# Altium footprint library Relay.PcbLib: 6 footprints
Each footprint in its own frame and in the unit in brackets; x right, y up, seen from the top. Pads: shape width x height; smd on the part's side, far side on the other; paste and mask are expansions set on the pad; w line width, h text height; cw(c..) or ccw(c..) is an arc to the next point about the centre after c.
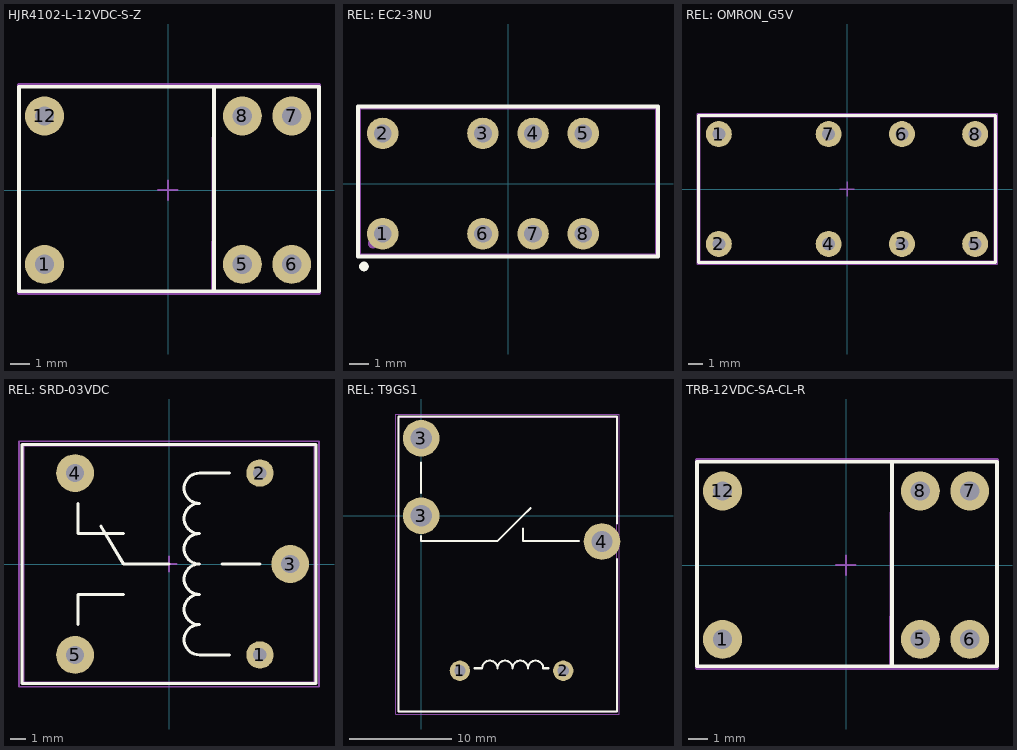
[diagram p0: the footprints below, top view; thin cyan lines are the x and y axes]

## HJR4102-L-12VDC-S-Z [mm] "Subminiature relay"
height 11.7
pads (6):
  round 2 hole 1: 1(-6.35,-3.81) 5(3.81,-3.81) 6(6.35,-3.81) 7(6.35,3.81) 8(3.81,3.81) 12(-6.35,3.81)
Top Overlay:
  lines w0.2: 2.35,-5.19 2.35,5.31 ; -7.65,-5.19 7.75,-5.19 7.75,5.31 -7.65,5.31 -7.65,-5.19
Top Assembly:
  lines w0.2: 2.3,-5.275 2.35,5.4 ; -7.66,-5.29 -7.66,5.41 7.75,5.41 7.75,-5.29 -7.66,-5.29
  text "'.Designator'" at -0.5,-0.312 h1
Area:
  lines w0.1: -0.51,0 0.49,0 ; -0.01,-0.5 -0.01,0.5 ; -7.65,-5.29 7.75,-5.29 7.75,5.41 -7.65,5.41 -7.65,-5.29
3D body "HJR4102.step": height 11.85, standoff -3.45, extent -7.7,-5.29 7.8,5.41

## REL: EC2-3NU [mm]
pads (10):
  round 1.6 hole 0.9: 1(-6.35,-2.54) 2(-6.35,2.54) 3(-1.27,2.54) 4(1.27,2.54) 5(3.81,2.54) 6(-1.27,-2.54) 7(1.27,-2.54) 8(3.81,-2.54)
  round 0.5 on Top Overlay: ""(-7.3,-4.2)
  round 0.5 on Mech1: ""(-6.85,-3.04)
Top Overlay:
  lines w0.2: -7.6,-3.7 7.6,-3.7 7.6,3.9 -7.6,3.9 -7.6,-3.7
Top Assembly:
  lines w0.1: -7.5,-3.59 7.5,-3.59 7.5,3.81 -7.5,3.81 -7.5,-3.59
Area:
  lines w0.1: -7.55,-3.64 7.55,-3.64 7.55,3.86 -7.55,3.86 -7.55,-3.64
3D body "User Library-EC2-12.STEP": height 8.2, standoff -3.5, extent -7.5,-3.59 7.5,3.81

## REL: OMRON_G5V [mm] "Omron G5V relay"
height 10
pads (8):
  round 1.8 hole 0.9: 1(-8.89,3.81) 2(-8.89,-3.81) 3(3.81,-3.81) 4(-1.27,-3.81) 5(8.89,-3.81) 6(3.81,3.81) 7(-1.27,3.81) 8(8.89,3.81)
Top Overlay:
  lines w0.2: -10.3,-5.1 -10.3,5.1 10.3,5.1 10.3,-5.1 -10.3,-5.1
Top Assembly:
  lines w0.1: -10.2,-5 10.2,-5 10.2,5 -10.2,5 -10.2,-5
Area:
  lines w0.1: -0.5,0 0.5,0 ; 0,-0.5 0,0.5 ; -10.4,-5.207 -10.4,5.207 10.4,5.207 10.4,-5.207 -10.4,-5.207
3D body "OMRON G5V-2.step": height 10.92, standoff -4, extent -10.2,-5 10.2,5

## REL: SRD-03VDC [mm]
pads (5):
  round 1.8 hole 0.9: 1(6,-6) 2(6,6)
  round 2.5 hole 1.2: 3(8,0) 4(-6.2,6) 5(-6.2,-6)
Top Overlay:
  lines w0.2: -6,-4 -6,-2 -3,-2 ; -6,4 -6,2 -3,2 ; -4.5,2.5 -3,0 0,0 ; 3.5,0 6,0 ; 4,-6 2,-6 cw(c2,-5) 2,-4 cw(c2,-3) 2,-2 cw(c2,-1) 2,0 cw(c2,1) 2,2 cw(c2,3) 2,4 cw(c2,5) 2,6 4,6 ; -9.7,-7.9 9.7,-7.9 9.7,7.9 -9.7,7.9 -9.7,-7.9
Top Assembly:
  lines w0.1: -6,-4 -6,-2 -3,-2 ; -6,4 -6,2 -3,2 ; -4.5,2.5 -3,0 0,0 ; 3.5,0 6,0 ; 4,-6 2,-6 cw(c2,-5) 2,-4 cw(c2,-3) 2,-2 cw(c2,-1) 2,0 cw(c2,1) 2,2 cw(c2,3) 2,4 cw(c2,5) 2,6 4,6 ; -9.6,-7.8 -9.6,7.8 9.6,7.8 9.6,-7.8 -9.6,-7.8
Area:
  lines w0.1: -0.5,0 0.5,0 ; 0,-0.5 0,0.5 ; -9.9,-8.1 9.9,-8.1 9.9,8.1 -9.9,8.1 -9.9,-8.1
3D body "6666.STEP": height 15.8, standoff -3, extent -9.6,-7.8 9.6,7.8

## REL: T9GS1 [mm]
pads (5):
  round 2 hole 1.1: 1(3.81,-15.24) 2(13.97,-15.24)
  round 3.6 hole 2.1: 3(0,0) 3(0,7.62) 4(17.78,-2.54)
Top Overlay:
  lines w0.2: 0,-2 0,-2.5 7.5,-2.5 10,0 ; 0,2.25 0,5.25 ; 5.25,-15 6,-15 cw(c6.75,-15) 7.5,-15 cw(c8.25,-15) 9,-15 cw(c9.75,-15) 10.5,-15 cw(c11.25,-15) 12,-15 12.5,-15 ; 10,-1.25 10,-2.5 15.5,-2.5 ; 10.75,0.75 10,0 ; 19.25,-4.25 19.25,-19.25 -2.25,-19.25 -2.25,9.75 19.25,9.75 19.25,-0.75 ; 10,0 10,0
3D view:
  lines w0.1: -2.25,-19.3 19.25,-19.3 19.25,9.7 -2.25,9.7 -2.25,-19.3
Area:
  lines w0.1: -2.5,-19.5 -2.5,10 19.5,10 19.5,-19.5 -2.5,-19.5
3D body "T9GS1L14-12.STEP": height 15.7, standoff -3.5, extent -2.25,-19.3 19.25,9.7

## TRB-12VDC-SA-CL-R [mm] "Subminiature relay"
height 11.7
pads (6):
  round 2 hole 1: 1(-6.35,-3.81) 5(3.81,-3.81) 6(6.35,-3.81) 7(6.35,3.81) 8(3.81,3.81) 12(-6.35,3.81)
Top Overlay:
  lines w0.2: 2.35,-5.19 2.35,5.31 ; -7.65,-5.19 7.75,-5.19 7.75,5.31 -7.65,5.31 -7.65,-5.19
Top Assembly:
  lines w0.2: 2.3,-5.275 2.35,5.4 ; -7.66,-5.29 -7.66,5.41 7.75,5.41 7.75,-5.29 -7.66,-5.29
  text "'.Designator'" at -0.5,-0.312 h1
Area:
  lines w0.1: -0.51,0 0.49,0 ; -0.01,-0.5 -0.01,0.5 ; -7.65,-5.29 7.75,-5.29 7.75,5.41 -7.65,5.41 -7.65,-5.29
3D body "TRB-TRB1.step": height 11.86, standoff -3.45, extent -7.7,-5.29 7.8,5.41